# Altium footprint library 5019530307.PcbLib: 1 footprints
Each footprint in its own frame and in the unit in brackets; x right, y up, seen from the top. Pads: shape width x height; smd on the part's side, far side on the other; paste and mask are expansions set on the pad; w line width, h text height; cw(c..) or ccw(c..) is an arc to the next point about the centre after c.
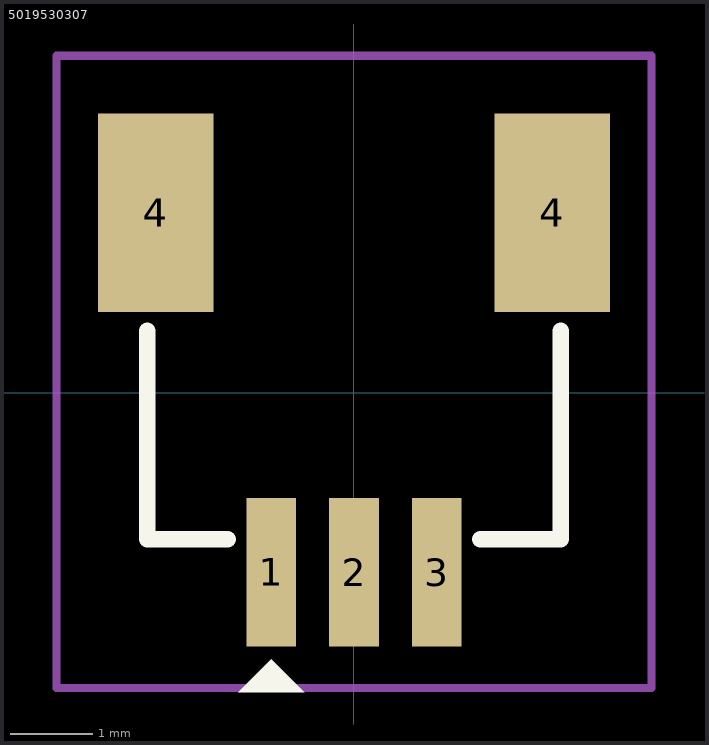
[diagram p0: the footprint, top view; thin cyan lines are the x and y axes]

## 5019530307 [mm]
pads (5):
  rect 0.6x1.8 smd: 1(-1,-2.175) 2(0,-2.175) 3(1,-2.175)
  rect 1.4x2.4 smd: 4(-2.4,2.175) 4(2.4,2.175)
Top Overlay:
  region: -0.6,-3.625 -1.4,-3.625 -1,-3.225
  lines w0.2: -2.5,0.75 -2.5,-1.775 -1.525,-1.775 ; 1.525,-1.775 2.5,-1.775 2.5,0.75
Top Courtyard:
  lines w0.1: -3.6,3.35 -3.6,4.075 ; 2.45,4.075 3.6,4.075 ; -3.6,4.075 -3.6,-3.575 3.6,-3.575 3.6,4.075 ; -3.6,4.075 3.6,4.075
3D body "5019530307.stp": height 4.75, standoff 0.05, extent -2.5,-2.325 2.5,3.575